# Altium schematic symbol library KM6A-M47.SchLib: 1 symbol
Pins are listed as number, name and electrical type; pins without a type are passive.

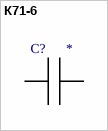
[diagram p0: symbol К71-6]

## К71-6
designator C?
footprint KM6A-M47
pins: 0, 1